# Altium schematic symbol library TRANS - Transistors.SchLib: 3 symbols
Pins are listed as number, name and electrical type; pins without a type are passive.

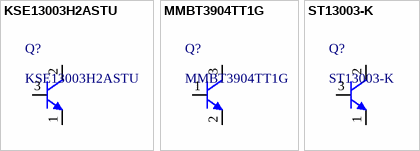
[diagram p0: symbols KSE13003H2ASTU to ST13003-K]

## KSE13003H2ASTU
designator Q?
TRANS NPN 400V 1.5A TO126; Manufacturer: Fairchild Semiconductor; Vce Saturation (Max) @ Ib, Ic: 3V @ 500mA, 1.5A; DC Current Gain (hFE) (Min) @ Ic, Vce: 14 @ 500mA, 2V; Power - Max: 20W; Frequency - Transition: 4MHz; Collector- Base Voltage VCBO: 700 V; Configuration: Single; DC Current Gain hFE Max: 40; Emitter- Base Voltage VEBO: 9 V; Collector-Emitter Saturation Voltage: 0.5 V; DC Collector/Base Gain hfe Min: 8; Gain Bandwidth Product fT: 4 MHz; Pd - Power Dissipation: 20 W; Supplier 1: Digi-Key; Supplier Part Number 1: KSE13003H2ASTU-ND; Manufacturer Part Number: KSE13003H2ASTU; RoHS: RoHS Compliant; Category: Discrete Semiconductor Products; Stock 1: 1691; Pricing 1: 1=0.44, 10=0.373, 100=0.2786, 500=0.2189, 1000=0.16915 (USD); Packaging: Tube; Part Status: Active; Transistor Type: NPN; Current - Collector (Ic) (Max): 1.5A; Voltage - Collector Emitter Breakdown (Max): 400V; Current - Collector Cutoff (Max): -; Operating Temperature: 150°C (TJ); Mounting Type: Through Hole; Package / Case: TO-225AA, TO-126-3; Supplier Device Package: TO-126-3; ComponentLink1URL: https://www.fairchildsemi.com/datasheets/KS/KSE13003.pdf; ComponentLink1Description: https://www.fairchildsemi.com/datasheets/KS/KSE13003.pdf; Supplier 2: Mouser; Supplier Part Number 2: 512-KSE13003H2ASTU; Stock 2: 1305; Pricing 2: 1=0.430, 10=0.359, 100=0.219, 1000=0.169, 2500=0.144, 10000=0.134, 25000=0.127, 50000=0.121, 100000=0.118 (USD); Collector- Emitter Voltage VCEO Max: 400 V; Height: 11 mm; Length: 8 mm; Series: KSE13003; Width: 3.25 mm; Brand: Fairchild Semiconductor; Continuous Collector Current: 1.5 A; Mounting Style: Through Hole; Transistor Polarity: NPN; Maximum DC Collector Current: 1.5 A; Maximum Operating Temperature: + 150 C; Minimum Operating Temperature: - 65 C; Standard Pack Qty: 1920; RoHS - Mouser: Y; Minimum Order Quantity: 1; Reeling: False; ComponentLink2URL: http://www.mouser.com/ds/2/149/KSE13003-889466.pdf; ComponentLink2Description: http://www.mouser.com/ds/2/149/KSE13003-889466.pdf
footprint TO-126
pins: 1 E, 2 C, 3 B

## MMBT3904TT1G
designator Q?
TRANS NPN 40V 0.2A SOT416; Manufacturer: ON Semiconductor; Current - Collector (Ic) (Max): 200mA; Vce Saturation (Max) @ Ib, Ic: 300mV @ 5mA, 50mA; DC Current Gain (hFE) (Min) @ Ic, Vce: 100 @ 10mA, 1V; Power - Max: 300mW; Frequency - Transition: 300MHz; Supplier 1: Digi-Key; RoHS: RoHS Compliant; Category: Discrete Semiconductor Products; Stock 1: 29372; Pricing 1: 1=0.15, 10=0.137, 100=0.0744, 500=0.0458, 1000=0.03123 (USD); Packaging: Cut Tape (CT); Part Status: Active; Transistor Type: NPN; Voltage - Collector Emitter Breakdown (Max): 40V; Current - Collector Cutoff (Max): -; Operating Temperature: -55°C ~ 150°C (TJ); Mounting Type: Surface Mount; Package / Case: SC-75, SOT-416; Supplier Device Package: SC-75, SOT-416; ComponentLink1URL: http://www.onsemi.com/pub_link/Collateral/MMBT3904TT1-D.PDF; ComponentLink1Description: http://www.onsemi.com/pub_link/Collateral/MMBT3904TT1-D.PDF; Supplier Part Number 1: MMBT3904TT1GOSCT-ND; Manufacturer Part Number: MMBT3904TT1G
footprint SOT-416
pins: 1 B, 2 E, 3 C

## ST13003-K
designator Q?
TRANS NPN 400V 1.5A SOT-32; Manufacturer: STMicroelectronics; Vce Saturation (Max) @ Ib, Ic: 1.5V @ 500mA, 1.5A; Current - Collector Cutoff (Max): 1mA; DC Current Gain (hFE) (Min) @ Ic, Vce: 5 @ 1A, 2V; Power - Max: 40W; Configuration: Single; DC Current Gain hFE Max: 8; Emitter- Base Voltage VEBO: 9 V; Pd - Power Dissipation: 40000 mW; Supplier 1: Digi-Key; Manufacturer Part Number: ST13003-K; RoHS: RoHS Compliant; Category: Discrete Semiconductor Products; Stock 1: 2233; Pricing 1: 1=0.67, 10=0.591, 100=0.4529, 500=0.358, 1000=0.2864 (USD); Packaging: Bulk; Part Status: Active; Transistor Type: NPN; Current - Collector (Ic) (Max): 1.5A; Voltage - Collector Emitter Breakdown (Max): 400V; Frequency - Transition: -; Operating Temperature: -40°C ~ 150°C (TJ); Mounting Type: Through Hole; Package / Case: TO-225AA, TO-126-3; Supplier Device Package: SOT-32-3; ComponentLink1URL: http://www.st.com/web/en/resource/technical/document/datasheet/CD00160678.pdf; ComponentLink1Description: http://www.st.com/web/en/resource/technical/document/datasheet/CD00160678.pdf; Supplier 2: Mouser; Stock 2: 644; Pricing 2: 1=0.660, 10=0.555, 100=0.358, 1000=0.286, 2000=0.242, 5000=0.233, 10000=0.232, 25000=0.218, 50000=0.214 (USD); Collector- Emitter Voltage VCEO Max: 400 V; Height: 10.8 mm (Max); Length: 7.8 mm (Max); Series: 500V to 1000V Transistors; Width: 2.7 mm (Max); Brand: STMicroelectronics; Mounting Style: SMD/SMT; Transistor Polarity: NPN; DC Collector/Base Gain hfe Min: 8; Maximum DC Collector Current: 1.5 A; Maximum Operating Temperature: + 150 C; Minimum Operating Temperature: - 55 C; Standard Pack Qty: 500; RoHS - Mouser: Y; Minimum Order Quantity: 1; Reeling: False; ComponentLink2URL: http://www.mouser.com/ds/2/389/st13003-955232.pdf; ComponentLink2Description: http://www.mouser.com/ds/2/389/st13003-955232.pdf; Supplier Part Number 1: 497-10295-ND; Supplier Part Number 2: 511-ST13003-K
footprint TO-126
pins: 1 E, 2 C, 3 B